# Altium schematic symbol library STM32F4 MCU.SCHLIB: 20 symbols
Pins are listed as number, name and electrical type; pins without a type are passive.

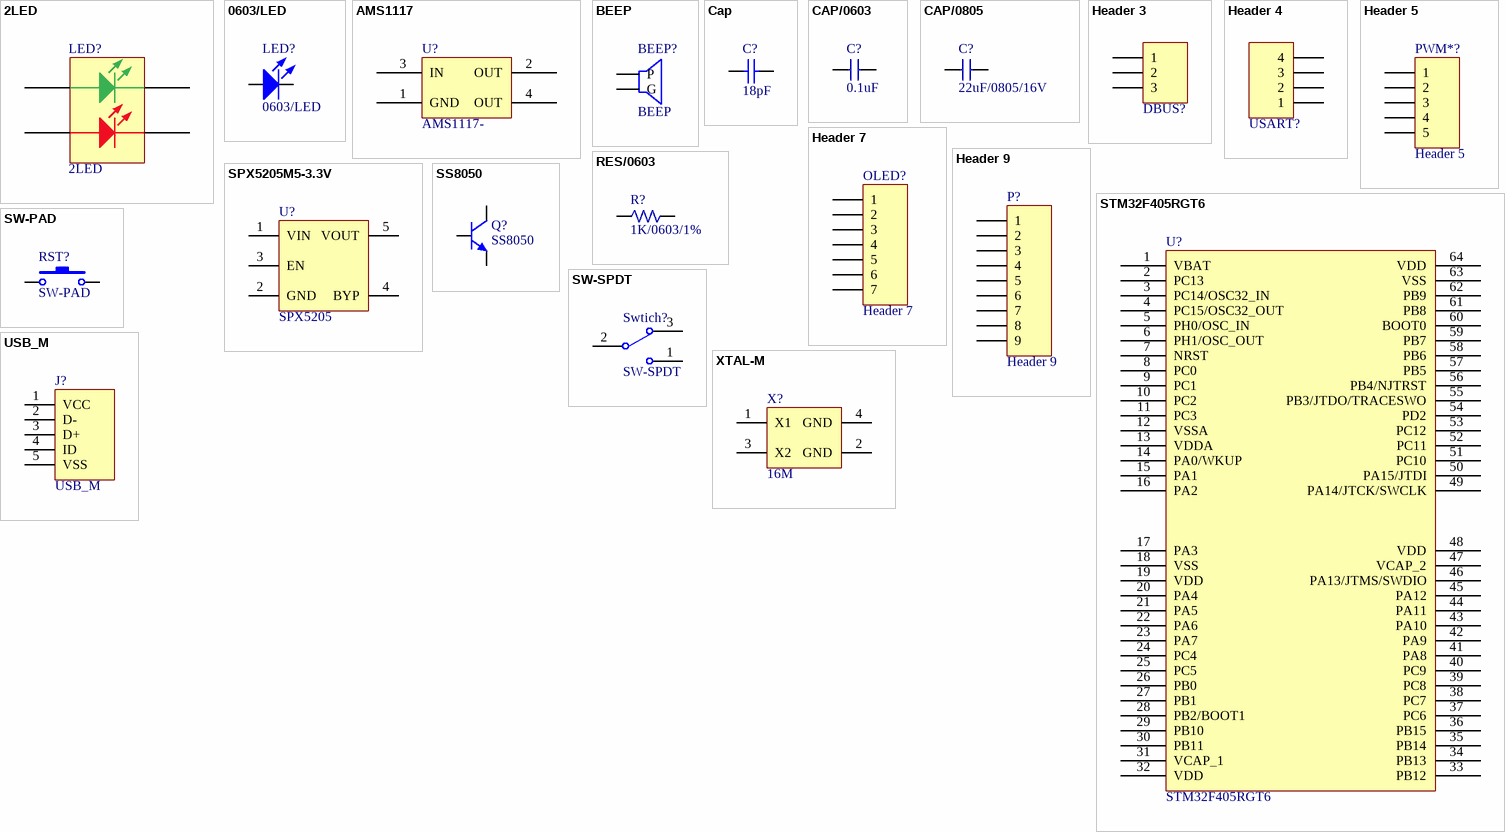
[diagram p0: symbols 2LED to XTAL-M]

## 2LED
designator LED?
footprint LED-2-1206
pins: 1, 2, 3, 4

## 0603/LED
designator LED?
footprint 0603
pins: 1 A, 2 K

## AMS1117
designator U?, comment AMS1117-
稳压芯片
footprint SOT-223 (ASM1117 -3.3V)
footprint SOT-89-3
pins: 1 GND, 2 OUT, 3 IN, 4 OUT

## BEEP
designator BEEP?
footprint BUZZ0.25 (Footprint not found)
footprint BELL-5
pins: 1 P, 2 G
2 alternate drawings of the same symbol

## Cap
designator C?, comment 18pF
无极性电容; Value: 100pF; Published: 8-Jun-2000; LatestRevisionDate: 17-Jul-2002; LatestRevisionNote: Re-released for DXP Platform.; PackageReference: RAD-0.3; Publisher: Altium Limited
footprint CAP-0402 (贴片电容)
footprint CAP-0603 (贴片电容)
footprint CAP-0805 (贴片电容)
footprint CAP-1206 (贴片电容)
footprint CAP-3528 (贴片电容)
pins: 1, 2

## CAP/0603
designator C?, comment 0.1uF
footprint 0603
pins: 1, 2

## CAP/0805
designator C?, comment 22uF/0805/16V
footprint 0805
pins: 1, 2

## Header 3
designator DBUS?  (value not drawn)
接插件; LatestRevisionDate: 17-Jul-2002; LatestRevisionNote: Re-released for DXP Platform.; Publisher: Altium Limited
footprint HDR3X1_B1 (Connector; Header; 3 Position)
footprint HDR3X1_A (Connector; Header; 3 Position)
footprint HDR3X1_C (3.81MM接插件)
footprint HDR3X1_D1 (5.08mm端子)
footprint HDR3X1_D2 (5.08mm端子)
footprint HDR3X1_B2 (Connector; Header; 3 Position)
footprint HDR3X1_B4 (Connector; Header; 4 Position)
pins: 1, 2, 3

## Header 4
designator USART?  (value not drawn)
接插件; LatestRevisionDate: 17-Jul-2002; LatestRevisionNote: Re-released for DXP Platform.; Publisher: Altium Limited
footprint HDR4X1_A (Connector; Header; 4 Position)
footprint HDR4X1_B1 (Connector; Header; 4 Position)
footprint HDR4X1_B2 (Connector; Header; 4 Position)
footprint HDR4X1_F
footprint HDR4X1_C (3.81MM接插件)
pins: 1, 2, 3, 4

## Header 5
designator PWM*?
Header, 5-Pin; LatestRevisionDate: 17-Jul-2002; LatestRevisionNote: Re-released for DXP Platform.; Publisher: Altium Limited
footprint HDR1X5 (Connector; Header; 5 Position)
signal-integrity model Connector
pins: 1, 2, 3, 4, 5

## Header 7
designator OLED?
Header, 7-Pin; LatestRevisionDate: 17-Jul-2002; LatestRevisionNote: Re-released for DXP Platform.; Publisher: Altium Limited
footprint HDR1X7 (Connector; Header; 7 Position)
signal-integrity model Connector
pins: 1, 2, 3, 4, 5, 6, 7

## Header 9
designator P?
Header, 9-Pin; LatestRevisionDate: 17-Jul-2002; LatestRevisionNote: Re-released for DXP Platform.; Publisher: Altium Limited
footprint HDR1X9 (Connector; Header; 9 Position)
signal-integrity model Connector
pins: 1, 2, 3, 4, 5, 6, 7, 8, 9

## RES/0603
designator R?, comment 1K/0603/1%
footprint 0603
pins: 1, 2

## SPX5205M5-3.3V
designator U?, comment SPX5205
5转3.3V LDO
footprint SPX5205M5-3.3V
pins: 1 VIN, 2 GND, 3 EN, 4 BYP, 5 VOUT

## SS8050
designator Q?
NPN贴片三极管; Published: 8-Jun-2000; LatestRevisionDate: 15-Jan-2003; LatestRevisionNote: PCB Footprint 'BCY-W3/D4.7' replaced; DatasheetDocument: 1997; PackageDocument: Sep-1998; PackageReference: TO-92A; Publisher: Altium Limited; Code_JEDEC: TO-92A; ComponentLink1Description: Manufacturer Link; ComponentLink1URL: http://www.fairchildsemi.com/; ComponentLink2Description: Datasheet; ComponentLink2URL: http://www.fairchildsemi.com/ds/2N%2F2N3904.pdf
footprint SOT-23 (普通贴片三极管)
pins: 1 B, 2 E, 3 C

## STM32F405RGT6
designator U?
footprint STM32F405RGT6 - duplicate
pins: 1 VBAT, 2 PC13, 3 PC14/OSC32_IN, 4 PC15/OSC32_OUT, 5 PH0/OSC_IN, 6 PH1/OSC_OUT, 7 NRST, 8 PC0, 9 PC1, 10 PC2, 11 PC3, 12 VSSA, 13 VDDA, 14 PA0/WKUP, 15 PA1, 16 PA2, 17 PA3, 18 VSS, 19 VDD, 20 PA4, 21 PA5, 22 PA6, 23 PA7, 24 PC4, 25 PC5, 26 PB0, 27 PB1, 28 PB2/BOOT1, 29 PB10, 30 PB11, 31 VCAP_1, 32 VDD, 33 PB12, 34 PB13, 35 PB14, 36 PB15, 37 PC6, 38 PC7, 39 PC8, 40 PC9, 41 PA8, 42 PA9, 43 PA10, 44 PA11, 45 PA12, 46 PA13/JTMS/SWDIO, 47 VCAP_2, 48 VDD, 49 PA14/JTCK/SWCLK, 50 PA15/JTDI, 51 PC10, 52 PC11, 53 PC12, 54 PD2, 55 PB3/JTDO/TRACESWO, 56 PB4/NJTRST, 57 PB5, 58 PB6, 59 PB7, 60 BOOT0, 61 PB8, 62 PB9, 63 VSS, 64 VDD

## SW-PAD
designator RST?
微动开关; Published: 24-Mar-1999; LatestRevisionDate: 17-Jul-2002; LatestRevisionNote: Re-released for DXP Platform.; PackageReference: SPST-2; Publisher: Altium Limited
footprint SW_PAD1 (3*6*2.5mm)
pins: 1, 2

## SW-SPDT
designator Swtich?
开关; Published: 24-Mar-1999; LatestRevisionDate: 17-Dec-2003; LatestRevisionNote: Schematic revised, PCB Footprint replaced.; DatasheetDocument: 05-Dec-2000; PackageReference: TL36WW15050; Publisher: Altium Limited; ComponentLink1Description: Manufacturer Link; ComponentLink1URL: http://www.apem.com
footprint MSK-12D19
pins: 1, 2, 3

## USB_M
designator J?
MicroUSB接口
footprint USB-MICRO (USB-PAD)
pins: 1 VCC, 2 D-, 3 D+, 4 ID, 5 VSS

## XTAL-M
designator X?, comment 16M
贴片晶振
footprint X-3225
pins: 1 X1, 2 GND, 3 X2, 4 GND